# Altium footprint library Diode.PcbLib: 4 footprints
Each footprint in its own frame and in the unit in brackets; x right, y up, seen from the top. Pads: shape width x height; smd on the part's side, far side on the other; paste and mask are expansions set on the pad; w line width, h text height; cw(c..) or ccw(c..) is an arc to the next point about the centre after c.
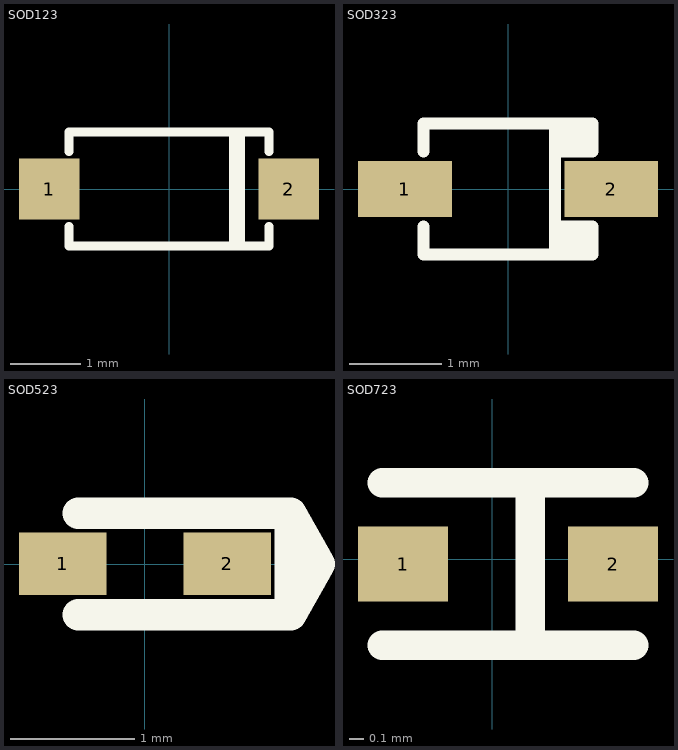
[diagram p0: the footprints below, top view; thin cyan lines are the x and y axes]

## SOD123 [mil]
pads (2):
  rect 34x34 smd paste+0 mask+2: 1(-67,0) 2(67,0)
Top Overlay:
  lines w5.08: -56,-21 -56,-32 56,-32 56,-21 ; -56,21 -56,32 56,32 56,21 ; 36,-32 36,32 ; 40,-32 40,32

## SOD323 [mil]
pads (2):
  rect 40x24 smd paste+0 mask+2: 1(-44,0) 2(44,0)
Top Overlay:
  lines w5.08: -36,-16 -36,-28 36,-28 36,-16 20,-16 ; -36,16 -36,28 36,28 36,16 20,16 ; 20,-28 20,28 ; 24,-28 24,-16 ; 24,16 24,28 ; 28,-28 28,-16 ; 28,16 28,28 ; 32,-28 32,-16 ; 32,16 32,28

## SOD523 [mil]
pads (2):
  rect 27.6x19.7 smd paste+0 mask+4: 1(-26,0.05) 2(26,0.05)
Top Overlay:
  lines w10: -21,-16 46,-16 ; -21,16 46,16 ; 46,-16 55,0 46,16 ; 46,-16 46,16

## SOD723 [mil]
pads (2):
  rect 24x20 smd paste+0 mask+2: 1(-23.85,-1.25) 2(32.15,-1.25)
Top Overlay:
  lines w7.9: -29.35,-22.95 37.65,-22.95 ; -29.35,20.45 37.65,20.45 ; 10.05,-22.95 10.05,20.45